# Altium integrated library PTC Fuse 805.IntLib: 1 symbol
Pins are listed as number, name and electrical type; pins without a type are passive.

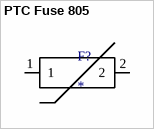
[diagram p0: symbol PTC Fuse 805]

## PTC Fuse 805
designator F?
footprint PCBComponent_1
pins: 1, 2